# EAGLE library part G6K-2F-TRDC24 (library Relay)
RELAY TELECOM DPDT 1A 24VDC Manufacturer's datasheet <https://omronfs.omron.com/en_US/ecb/products/pdf/en-g6k.pdf>
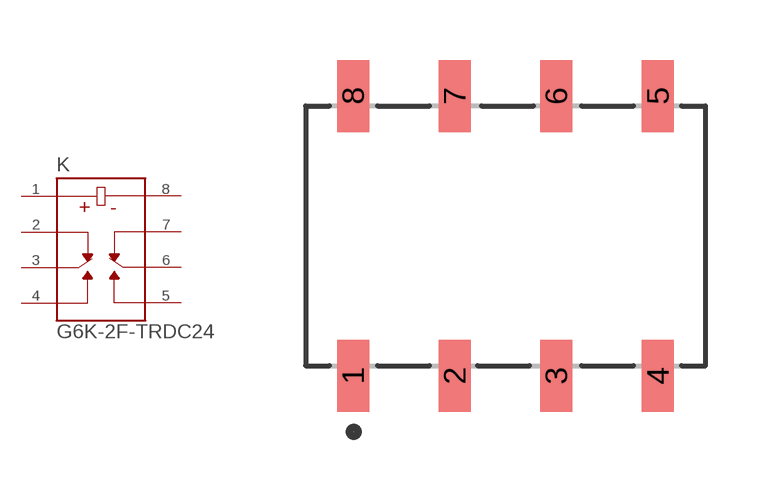
[diagram p11: symbol with the pads of G6K-2F-TRDC24; footprint G6K-2F-TRDC24]

Designator prefix K

## G6K-2F-TRDC24 (CREATED_BY: PCBLayout.com; DIGIKEY_PN: Z114TR-ND; MANUFACTURER: Omron Electronics Inc-EMC Div; MPN: G6K-2F-TR DC24)  [G6K-2F-TRDC24]
1  1  pas
2  2  pas
3  3  pas
4  4  pas
5  5  pas
6  6  pas
7  7  pas
8  8  pas

## Footprint G6K-2F-TRDC24 (pad centres in mm)
smd 0.8 x 1.8: 1 -3.81,-3.5; 2 -1.27,-3.5; 3 1.27,-3.5; 4 3.81,-3.5; 5 3.81,3.5; 6 1.27,3.5; 7 -1.27,3.5; 8 -3.81,3.5